# Altium schematic symbol library F-36911000000.Schlib: 1 symbol
Pins are listed as number, name and electrical type; pins without a type are passive.

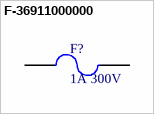
[diagram p0: symbol F-36911000000]

## F-36911000000
designator F?, comment 1A 300V
Fuses with Leads (Through Hole) 300V TL TE5 LL 1A
pins: 1, 2